# EAGLE library part CON_MICROUSB_FCI_10118194 (library WCSMain)
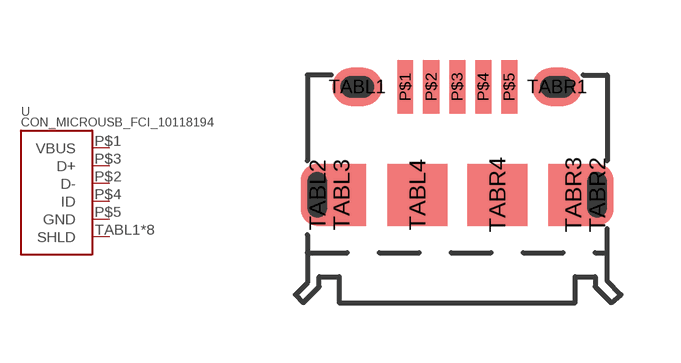
[diagram p18: symbol with the pads of CON_UUSB_FCI; footprint CON_UUSB_FCI]

Designator prefix -

## CON_MICROUSB_FCI_10118194  [CON_UUSB_FCI]
P$1  VBUS  pas
P$2  D-  pwr
P$3  D+  pas
P$4  ID  pas
P$5  GND  pas
TABL1  SHLD  pas
TABL2  SHLD  pas
TABL3  SHLD  pas
TABL4  SHLD  pas
TABR1  SHLD  pas
TABR2  SHLD  pas
TABR3  SHLD  pas
TABR4  SHLD  pas

## Footprint CON_UUSB_FCI (pad centres in mm)
smd 0.4 x 1.35: P$1 -1.3,2.7; P$2 -0.65,2.7; P$3 0,2.7; P$4 0.65,2.7; P$5 1.3,2.7
smd 1.25 x 0.95: TABL1 -2.5,2.7; TABR1 2.5,2.7
smd 0.823 x 1.55: TABL2 -3.5,0; TABR2 3.5,0
smd 1.234 x 1.55: TABL3 -2.9,0; TABR3 2.9,0
smd 1.5 x 1.55: TABL4 -1,0; TABR4 1,0